# Altium footprint library MUSBRM1C130.PcbLib: 1 footprints
Each footprint in its own frame and in the unit in brackets; x right, y up, seen from the top. Pads: shape width x height; smd on the part's side, far side on the other; paste and mask are expansions set on the pad; w line width, h text height; cw(c..) or ccw(c..) is an arc to the next point about the centre after c.
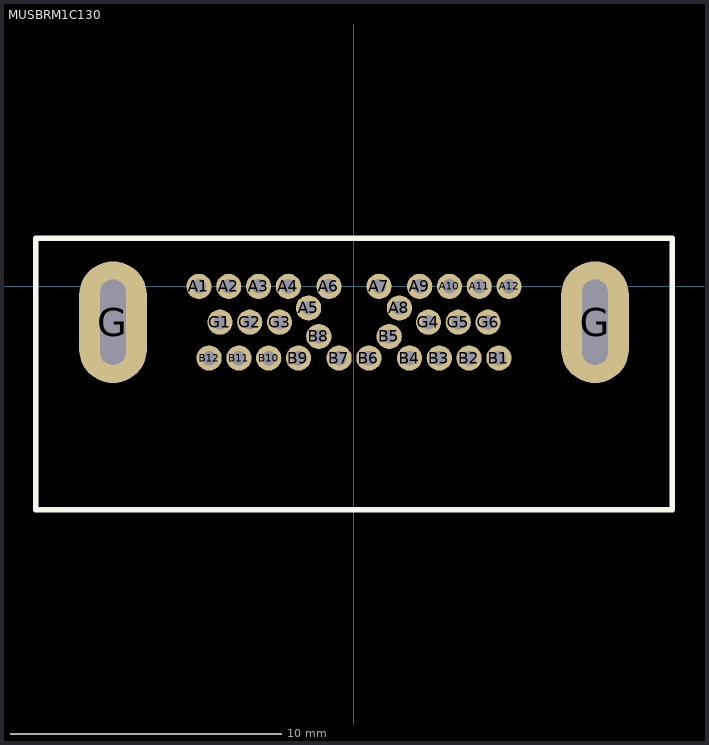
[diagram p0: the footprint, top view; thin cyan lines are the x and y axes]

## MUSBRM1C130 [mm] "MUSBRM1C130"
pads (32):
  round 0.93 hole 0.53 mask+0.015: A1(-5.725,0) A2(-4.625,0) A3(-3.525,0) A4(-2.425,0) A5(-1.675,-0.8) A6(-0.925,0) A7(0.925,0) A8(1.675,-0.8) A9(2.425,0) A10(3.525,0) A11(4.625,0) A12(5.725,0) B1(5.35,-2.65) B2(4.25,-2.65) B3(3.15,-2.65) B4(2.05,-2.65) B5(1.3,-1.85) B6(0.55,-2.65) B7(-0.55,-2.65) B8(-1.3,-1.85) B9(-2.05,-2.65) B10(-3.15,-2.65) B11(-4.25,-2.65) B12(-5.35,-2.65) G1(-4.95,-1.325) G2(-3.85,-1.325) G3(-2.75,-1.325) G4(2.75,-1.325) G5(3.85,-1.325) G6(4.95,-1.325)
  oval 2.5x4.5 hole 0.95 slot 3.15 at 90 deg: G(-8.9,-1.325) G(8.9,-1.325)
Top Overlay:
  lines w0.2: -11.75,-8.25 11.75,-8.25 11.75,1.775 -11.75,1.775 -11.75,-8.25
Top Assembly:
  lines w0.1: -11.75,-8.25 -11.75,1.775 11.75,1.775 11.75,-8.25 -11.75,-8.25
  text "'.Designator'" at -4.325,-5.4 h0.7
3D body "ACC-M-MUSBR-M1C1-M0-REVT3.STEP": height 7.62, standoff -3.03, extent -11.75,-13.175 11.75,1.775
3D body: height 10, standoff -10, extent -0.35,3.775 -0.35,3.775